# EAGLE library part ICM7555 (library BattMonTimer)
TIMER
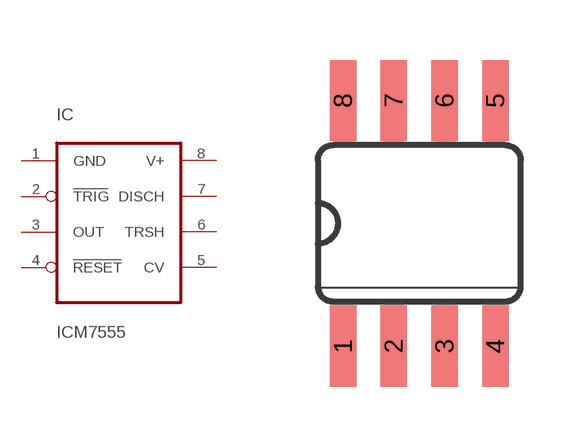
[diagram p2: symbol with the pads of SO08; footprint SO08]

Designator prefix IC

## ICM7555SO08 (DIGIKEY: ICM7555CBAZ-TCT-ND)  [SO08]
1  GND  pwr
2  TRIG
3  OUT  out
4  RESET  in
5  CV  pas
6  TRSH  in
7  DISCH  in
8  V+  pwr

## Footprint SO08 (pad centres in mm)
Small Outline Package
smd 0.66 x 2.032: 1 -1.905,-3.073; 2 -0.635,-3.073; 3 0.635,-3.073; 4 1.905,-3.073; 5 1.905,3.073; 6 0.635,3.073; 7 -0.635,3.073; 8 -1.905,3.073